# EAGLE library part MAX4336 (library maxim488_custom)
50mA IOUT, Rail-to-Rail I/O Op Amp with Shutdown/Mute Source: http://datasheets.maxim-ic.com/en/ds/MAX4335-MAX4338.pdf
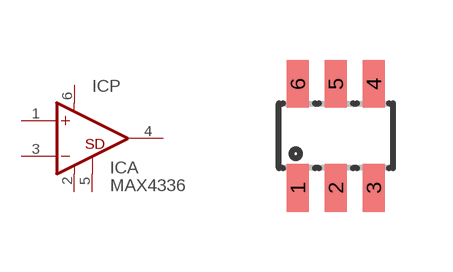
[diagram p323: symbol with the pads of SOT23-6L; footprint SOT23-6L]

Designator prefix IC; gates A=OP-SHDOWN P=PWR+-GATE

## MAX4336EXT-T (MPN: MAX4336EXT+T; OC_FARNELL: unknown; OC_NEWARK: 27M4090)  [SOT23-6L]
1  A:+IN  in
2  P:V-  pwr
3  A:-IN  in
4  A:OUT  out
5  A:SHUTDOWN  pas
6  P:V+  pwr

## Footprint SOT23-6L (pad centres in mm)
Small Outline Transistor
smd 0.55 x 1.2: 1 -0.95,-1.3; 2 0,-1.3; 3 0.95,-1.3; 4 0.95,1.3; 5 0,1.3; 6 -0.95,1.3